# Altium schematic symbol library RES55.Schlib: 1 symbol
Pins are listed as number, name and electrical type; pins without a type are passive.

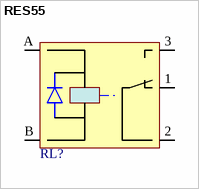
[diagram p0: symbol RES55]

## RES55
designator RL?, comment РЭС55  (value not drawn)
Реле; Назначение: Реле; Наименование: РЭС55
footprint РЭС55
pins: 1, 2, 3, A, B